# Altium schematic symbol library FUSB302BMPX.SchLib: 1 symbol
Pins are listed as number, name and electrical type; pins without a type are passive.

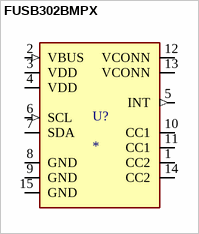
[diagram p0: symbol FUSB302BMPX]

## FUSB302BMPX
designator U?
Full Speed Programmable USB Power Delivery Controller USB 3.1 3.3V T/R 14-Pin WQFN EP; Manufacturer: ON Semiconductor / Fairchild; MF: ON Semiconductor; MP: FUSB302BMPX; Operating Supply Current: 25uA; USB Standard: USB 3.1; Data Rate: 5Gbps; Max Supply Voltage: 21V; Min Supply Voltage: 2.7V; Number of Ports: 1; SnapEDA_Link: https://www.snapeda.com/parts/FUSB302BMPX/Onsemi/view-part/?ref=snap; Package: WQFN-14 ON Semiconductor; Value: *; Check_prices: https://www.snapeda.com/parts/FUSB302BMPX/Onsemi/view-part/?ref=eda; Supplier: Digikey; Supplier Part Number: FUSB302BMPXCT-ND; Manufacturer Part Number: FUSB302BMPX; RoHS: Yes; Category: USB Interface ICs; Stock: 12; Pricing: 1=1.9, 10=1.178, 25=0.9896, 100=0.7767, 250=0.67204, 500=0.60764, 1000=0.55372, 3000=0.48561, 6000=0.45375 (USD); Mounting Technology: Surface Mount; Min Operating Temperature: -40°C; Max Operating Temperature: 125°C; Packaging: Cut Tape; Series: -; Interface: USB; Height: 800um; RoHS Compliant: Yes; ComponentLink1URL: http://www.farnell.com/datasheets/2313408.pdf?src-supplier=Farnell; ComponentLink1Description: http://www.farnell.com/datasheets/2313408.pdf?src-supplier=Farnell; ComponentLink2URL: http://www.onsemi.com/pub/Collateral/FUSB302B-D.PDF?src-supplier=Digikey; ComponentLink2Description: http://www.onsemi.com/pub/Collateral/FUSB302B-D.PDF?src-supplier=Digikey; ComponentLink3URL: http://datasheet.octopart.com/FUSB302BMPX-ON-Semiconductor-datasheet-85553203.pdf?src-supplier=Digikey; ComponentLink3Description: http://datasheet.octopart.com/FUSB302BMPX-ON-Semiconductor-datasheet-85553203.pdf?src-supplier=Digikey; ComponentLink4URL: https://datasheet.octopart.com/FUSB302BMPX-ON-Semiconductor-datasheet-85553203.pdf?src-supplier=Farnell; ComponentLink4Description: https://datasheet.octopart.com/FUSB302BMPX-ON-Semiconductor-datasheet-85553203.pdf?src-supplier=Farnell; ComponentLink5URL: http://datasheet.octopart.com/FUSB302BMPX-ON-Semiconductor-datasheet-85553203.pdf?src-supplier=Mouser; ComponentLink5Description: http://datasheet.octopart.com/FUSB302BMPX-ON-Semiconductor-datasheet-85553203.pdf?src-supplier=Mouser; ComponentLink6URL: https://datasheet.octopart.com/FUSB302BMPX-onsemi-datasheet-166148741.pdf?src-supplier=Future+Electronics; ComponentLink6Description: https://datasheet.octopart.com/FUSB302BMPX-onsemi-datasheet-166148741.pdf?src-supplier=Future+Electronics; ComponentLink7URL: http://datasheet.octopart.com/FUSB302BMPX-ON-Semiconductor-datasheet-85553203.pdf?src-supplier=LCSC; ComponentLink7Description: http://datasheet.octopart.com/FUSB302BMPX-ON-Semiconductor-datasheet-85553203.pdf?src-supplier=LCSC; ComponentLink8URL: https://datasheet.octopart.com/FUSB302BMPX-onsemi-datasheet-167211569.pdf?src-supplier=Arrow.cn; ComponentLink8Description: https://datasheet.octopart.com/FUSB302BMPX-onsemi-datasheet-167211569.pdf?src-supplier=Arrow.cn
footprint MLP-14
pins: 1 CC2 (io), 2 VBUS (in), 3 VDD (power), 4 VDD (power), 5 INT (out), 6 SCL (in), 7 SDA (io), 8 GND, 9 GND, 10 CC1 (io), 11 CC1 (io), 12 VCONN (power), 13 VCONN (power), 14 CC2 (io), 15 GND